# Altium integrated library Dallas Logic Delay Line.IntLib: 454 symbols (part 7 of 8)
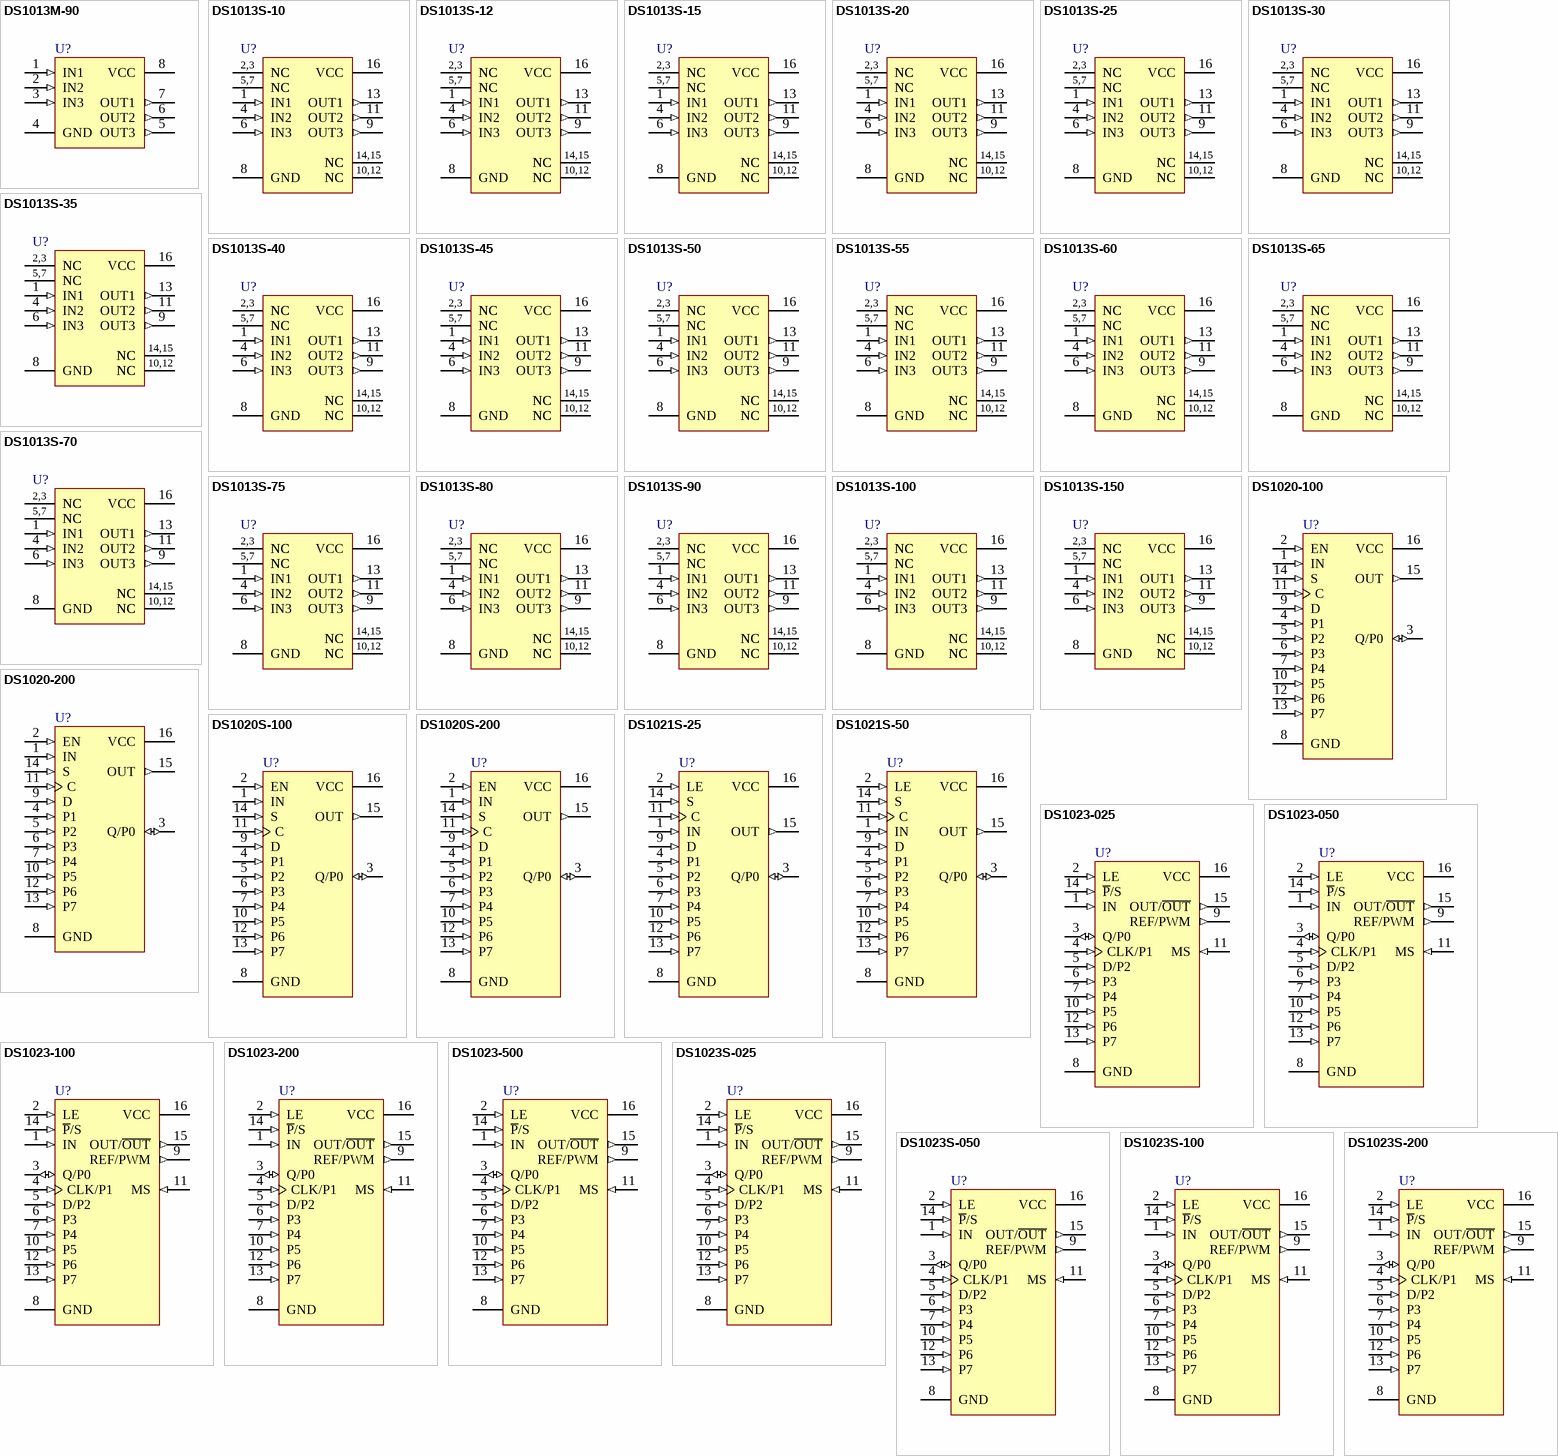
[diagram p17: symbols DS1013M-90 to DS1023S-200]

## DS1013S-10
designator U?
3-in-1 Silicon Delay Line; Note: Pin numbers 2, 3, 5, 7, 10, 12, 14 and 15 are Not Connected (NC); Published: 13-Oct-2000; LatestRevisionDate: 13-Apr-2006; LatestRevisionNote: IPC-7351 Footprint Added.; DatasheetVersion: 17-Feb-1998; PackageVersion: 1999; PackageReference: SOIC16W; Publisher: Altium Limited; PackageDescription: 16-Pin Small Outline Integrated Circuit 1.27 mm Pitch; ComponentLink1Description: Manufacturer Link; ComponentLink1URL: http://www.maxim-ic.com/; ComponentLink2Description: Datasheet; ComponentLink2URL: http://www.maxim-ic.com/getds.cfm?qv_pk=2605&ln=en
footprint SOIC16W_N (SOIC, 16-Leads, Body 10.3x7.5mm, Pitch 1.27mm, IPC Medium Density)
footprint SOIC16W_L (SOIC, 16-Leads, Body 10.3x7.5mm, Pitch 1.27mm, IPC High Density)
footprint SOIC16W_M (SOIC, 16-Leads, Body 10.3x7.5mm, Pitch 1.27mm, IPC Low Density)
pins: 1 IN1 (in), 2 NC, 3 NC, 4 IN2 (in), 5 NC, 6 IN3 (in), 7 NC, 8 GND (power), 9 OUT3 (out), 10 NC, 11 OUT2 (out), 12 NC, 13 OUT1 (out), 14 NC, 15 NC, 16 VCC (power)
text: 2,3; 5,7; 14,15; 10,12

## DS1013S-12
designator U?
3-in-1 Silicon Delay Line; Note: Pin numbers 2, 3, 5, 7, 10, 12, 14 and 15 are Not Connected (NC); Published: 13-Oct-2000; LatestRevisionDate: 13-Apr-2006; LatestRevisionNote: IPC-7351 Footprint Added.; DatasheetVersion: 17-Feb-1998; PackageVersion: 1999; PackageReference: SOIC16W; Publisher: Altium Limited; PackageDescription: 16-Pin Small Outline Integrated Circuit 1.27 mm Pitch; ComponentLink1Description: Manufacturer Link; ComponentLink1URL: http://www.maxim-ic.com/; ComponentLink2Description: Datasheet; ComponentLink2URL: http://www.maxim-ic.com/getds.cfm?qv_pk=2605&ln=en
footprint SOIC16W_N (SOIC, 16-Leads, Body 10.3x7.5mm, Pitch 1.27mm, IPC Medium Density)
footprint SOIC16W_L (SOIC, 16-Leads, Body 10.3x7.5mm, Pitch 1.27mm, IPC High Density)
footprint SOIC16W_M (SOIC, 16-Leads, Body 10.3x7.5mm, Pitch 1.27mm, IPC Low Density)
pins: 1 IN1 (in), 2 NC, 3 NC, 4 IN2 (in), 5 NC, 6 IN3 (in), 7 NC, 8 GND (power), 9 OUT3 (out), 10 NC, 11 OUT2 (out), 12 NC, 13 OUT1 (out), 14 NC, 15 NC, 16 VCC (power)
text: 2,3; 5,7; 14,15; 10,12

## DS1013S-15
designator U?
3-in-1 Silicon Delay Line; Note: Pin numbers 2, 3, 5, 7, 10, 12, 14 and 15 are Not Connected (NC); Published: 13-Oct-2000; LatestRevisionDate: 13-Apr-2006; LatestRevisionNote: IPC-7351 Footprint Added.; DatasheetVersion: 17-Feb-1998; PackageVersion: 1999; PackageReference: SOIC16W; Publisher: Altium Limited; PackageDescription: 16-Pin Small Outline Integrated Circuit 1.27 mm Pitch; ComponentLink1Description: Manufacturer Link; ComponentLink1URL: http://www.maxim-ic.com/; ComponentLink2Description: Datasheet; ComponentLink2URL: http://www.maxim-ic.com/getds.cfm?qv_pk=2605&ln=en
footprint SOIC16W_N (SOIC, 16-Leads, Body 10.3x7.5mm, Pitch 1.27mm, IPC Medium Density)
footprint SOIC16W_L (SOIC, 16-Leads, Body 10.3x7.5mm, Pitch 1.27mm, IPC High Density)
footprint SOIC16W_M (SOIC, 16-Leads, Body 10.3x7.5mm, Pitch 1.27mm, IPC Low Density)
pins: 1 IN1 (in), 2 NC, 3 NC, 4 IN2 (in), 5 NC, 6 IN3 (in), 7 NC, 8 GND (power), 9 OUT3 (out), 10 NC, 11 OUT2 (out), 12 NC, 13 OUT1 (out), 14 NC, 15 NC, 16 VCC (power)
text: 2,3; 5,7; 14,15; 10,12

## DS1013S-20
designator U?
3-in-1 Silicon Delay Line; Note: Pin numbers 2, 3, 5, 7, 10, 12, 14 and 15 are Not Connected (NC); Published: 13-Oct-2000; LatestRevisionDate: 13-Apr-2006; LatestRevisionNote: IPC-7351 Footprint Added.; DatasheetVersion: 17-Feb-1998; PackageVersion: 1999; PackageReference: SOIC16W; Publisher: Altium Limited; PackageDescription: 16-Pin Small Outline Integrated Circuit 1.27 mm Pitch; ComponentLink1Description: Manufacturer Link; ComponentLink1URL: http://www.maxim-ic.com/; ComponentLink2Description: Datasheet; ComponentLink2URL: http://www.maxim-ic.com/getds.cfm?qv_pk=2605&ln=en
footprint SOIC16W_N (SOIC, 16-Leads, Body 10.3x7.5mm, Pitch 1.27mm, IPC Medium Density)
footprint SOIC16W_L (SOIC, 16-Leads, Body 10.3x7.5mm, Pitch 1.27mm, IPC High Density)
footprint SOIC16W_M (SOIC, 16-Leads, Body 10.3x7.5mm, Pitch 1.27mm, IPC Low Density)
pins: 1 IN1 (in), 2 NC, 3 NC, 4 IN2 (in), 5 NC, 6 IN3 (in), 7 NC, 8 GND (power), 9 OUT3 (out), 10 NC, 11 OUT2 (out), 12 NC, 13 OUT1 (out), 14 NC, 15 NC, 16 VCC (power)
text: 2,3; 5,7; 14,15; 10,12

## DS1013S-25
designator U?
3-in-1 Silicon Delay Line; Note: Pin numbers 2, 3, 5, 7, 10, 12, 14 and 15 are Not Connected (NC); Published: 13-Oct-2000; LatestRevisionDate: 13-Apr-2006; LatestRevisionNote: IPC-7351 Footprint Added.; DatasheetVersion: 17-Feb-1998; PackageVersion: 1999; PackageReference: SOIC16W; Publisher: Altium Limited; PackageDescription: 16-Pin Small Outline Integrated Circuit 1.27 mm Pitch; ComponentLink1Description: Manufacturer Link; ComponentLink1URL: http://www.maxim-ic.com/; ComponentLink2Description: Datasheet; ComponentLink2URL: http://www.maxim-ic.com/getds.cfm?qv_pk=2605&ln=en
footprint SOIC16W_N (SOIC, 16-Leads, Body 10.3x7.5mm, Pitch 1.27mm, IPC Medium Density)
footprint SOIC16W_L (SOIC, 16-Leads, Body 10.3x7.5mm, Pitch 1.27mm, IPC High Density)
footprint SOIC16W_M (SOIC, 16-Leads, Body 10.3x7.5mm, Pitch 1.27mm, IPC Low Density)
pins: 1 IN1 (in), 2 NC, 3 NC, 4 IN2 (in), 5 NC, 6 IN3 (in), 7 NC, 8 GND (power), 9 OUT3 (out), 10 NC, 11 OUT2 (out), 12 NC, 13 OUT1 (out), 14 NC, 15 NC, 16 VCC (power)
text: 2,3; 5,7; 14,15; 10,12

## DS1013S-30
designator U?
3-in-1 Silicon Delay Line; Note: Pin numbers 2, 3, 5, 7, 10, 12, 14 and 15 are Not Connected (NC); Published: 13-Oct-2000; LatestRevisionDate: 13-Apr-2006; LatestRevisionNote: IPC-7351 Footprint Added.; DatasheetVersion: 17-Feb-1998; PackageVersion: 1999; PackageReference: SOIC16W; Publisher: Altium Limited; PackageDescription: 16-Pin Small Outline Integrated Circuit 1.27 mm Pitch; ComponentLink1Description: Manufacturer Link; ComponentLink1URL: http://www.maxim-ic.com/; ComponentLink2Description: Datasheet; ComponentLink2URL: http://www.maxim-ic.com/getds.cfm?qv_pk=2605&ln=en
footprint SOIC16W_N (SOIC, 16-Leads, Body 10.3x7.5mm, Pitch 1.27mm, IPC Medium Density)
footprint SOIC16W_L (SOIC, 16-Leads, Body 10.3x7.5mm, Pitch 1.27mm, IPC High Density)
footprint SOIC16W_M (SOIC, 16-Leads, Body 10.3x7.5mm, Pitch 1.27mm, IPC Low Density)
pins: 1 IN1 (in), 2 NC, 3 NC, 4 IN2 (in), 5 NC, 6 IN3 (in), 7 NC, 8 GND (power), 9 OUT3 (out), 10 NC, 11 OUT2 (out), 12 NC, 13 OUT1 (out), 14 NC, 15 NC, 16 VCC (power)
text: 2,3; 5,7; 14,15; 10,12

## DS1013S-35
designator U?
3-in-1 Silicon Delay Line; Note: Pin numbers 2, 3, 5, 7, 10, 12, 14 and 15 are Not Connected (NC); Published: 13-Oct-2000; LatestRevisionDate: 13-Apr-2006; LatestRevisionNote: IPC-7351 Footprint Added.; DatasheetVersion: 17-Feb-1998; PackageVersion: 1999; PackageReference: SOIC16W; Publisher: Altium Limited; PackageDescription: 16-Pin Small Outline Integrated Circuit 1.27 mm Pitch; ComponentLink1Description: Manufacturer Link; ComponentLink1URL: http://www.maxim-ic.com/; ComponentLink2Description: Datasheet; ComponentLink2URL: http://www.maxim-ic.com/getds.cfm?qv_pk=2605&ln=en
footprint SOIC16W_N (SOIC, 16-Leads, Body 10.3x7.5mm, Pitch 1.27mm, IPC Medium Density)
footprint SOIC16W_L (SOIC, 16-Leads, Body 10.3x7.5mm, Pitch 1.27mm, IPC High Density)
footprint SOIC16W_M (SOIC, 16-Leads, Body 10.3x7.5mm, Pitch 1.27mm, IPC Low Density)
pins: 1 IN1 (in), 2 NC, 3 NC, 4 IN2 (in), 5 NC, 6 IN3 (in), 7 NC, 8 GND (power), 9 OUT3 (out), 10 NC, 11 OUT2 (out), 12 NC, 13 OUT1 (out), 14 NC, 15 NC, 16 VCC (power)
text: 2,3; 5,7; 14,15; 10,12

## DS1013S-40
designator U?
3-in-1 Silicon Delay Line; Note: Pin numbers 2, 3, 5, 7, 10, 12, 14 and 15 are Not Connected (NC); Published: 13-Oct-2000; LatestRevisionDate: 13-Apr-2006; LatestRevisionNote: IPC-7351 Footprint Added.; DatasheetVersion: 17-Feb-1998; PackageVersion: 1999; PackageReference: SOIC16W; Publisher: Altium Limited; PackageDescription: 16-Pin Small Outline Integrated Circuit 1.27 mm Pitch; ComponentLink1Description: Manufacturer Link; ComponentLink1URL: http://www.maxim-ic.com/; ComponentLink2Description: Datasheet; ComponentLink2URL: http://www.maxim-ic.com/getds.cfm?qv_pk=2605&ln=en
footprint SOIC16W_N (SOIC, 16-Leads, Body 10.3x7.5mm, Pitch 1.27mm, IPC Medium Density)
footprint SOIC16W_L (SOIC, 16-Leads, Body 10.3x7.5mm, Pitch 1.27mm, IPC High Density)
footprint SOIC16W_M (SOIC, 16-Leads, Body 10.3x7.5mm, Pitch 1.27mm, IPC Low Density)
pins: 1 IN1 (in), 2 NC, 3 NC, 4 IN2 (in), 5 NC, 6 IN3 (in), 7 NC, 8 GND (power), 9 OUT3 (out), 10 NC, 11 OUT2 (out), 12 NC, 13 OUT1 (out), 14 NC, 15 NC, 16 VCC (power)
text: 2,3; 5,7; 14,15; 10,12

## DS1013S-45
designator U?
3-in-1 Silicon Delay Line; Note: Pin numbers 2, 3, 5, 7, 10, 12, 14 and 15 are Not Connected (NC); Published: 13-Oct-2000; LatestRevisionDate: 13-Apr-2006; LatestRevisionNote: IPC-7351 Footprint Added.; DatasheetVersion: 17-Feb-1998; PackageVersion: 1999; PackageReference: SOIC16W; Publisher: Altium Limited; PackageDescription: 16-Pin Small Outline Integrated Circuit 1.27 mm Pitch; ComponentLink1Description: Manufacturer Link; ComponentLink1URL: http://www.maxim-ic.com/; ComponentLink2Description: Datasheet; ComponentLink2URL: http://www.maxim-ic.com/getds.cfm?qv_pk=2605&ln=en
footprint SOIC16W_N (SOIC, 16-Leads, Body 10.3x7.5mm, Pitch 1.27mm, IPC Medium Density)
footprint SOIC16W_L (SOIC, 16-Leads, Body 10.3x7.5mm, Pitch 1.27mm, IPC High Density)
footprint SOIC16W_M (SOIC, 16-Leads, Body 10.3x7.5mm, Pitch 1.27mm, IPC Low Density)
pins: 1 IN1 (in), 2 NC, 3 NC, 4 IN2 (in), 5 NC, 6 IN3 (in), 7 NC, 8 GND (power), 9 OUT3 (out), 10 NC, 11 OUT2 (out), 12 NC, 13 OUT1 (out), 14 NC, 15 NC, 16 VCC (power)
text: 2,3; 5,7; 14,15; 10,12

## DS1013S-50
designator U?
3-in-1 Silicon Delay Line; Note: Pin numbers 2, 3, 5, 7, 10, 12, 14 and 15 are Not Connected (NC); Published: 13-Oct-2000; LatestRevisionDate: 13-Apr-2006; LatestRevisionNote: IPC-7351 Footprint Added.; DatasheetVersion: 17-Feb-1998; PackageVersion: 1999; PackageReference: SOIC16W; Publisher: Altium Limited; PackageDescription: 16-Pin Small Outline Integrated Circuit 1.27 mm Pitch; ComponentLink1Description: Manufacturer Link; ComponentLink1URL: http://www.maxim-ic.com/; ComponentLink2Description: Datasheet; ComponentLink2URL: http://www.maxim-ic.com/getds.cfm?qv_pk=2605&ln=en
footprint SOIC16W_N (SOIC, 16-Leads, Body 10.3x7.5mm, Pitch 1.27mm, IPC Medium Density)
footprint SOIC16W_L (SOIC, 16-Leads, Body 10.3x7.5mm, Pitch 1.27mm, IPC High Density)
footprint SOIC16W_M (SOIC, 16-Leads, Body 10.3x7.5mm, Pitch 1.27mm, IPC Low Density)
pins: 1 IN1 (in), 2 NC, 3 NC, 4 IN2 (in), 5 NC, 6 IN3 (in), 7 NC, 8 GND (power), 9 OUT3 (out), 10 NC, 11 OUT2 (out), 12 NC, 13 OUT1 (out), 14 NC, 15 NC, 16 VCC (power)
text: 2,3; 5,7; 14,15; 10,12

## DS1013S-55
designator U?
3-in-1 Silicon Delay Line; Note: Pin numbers 2, 3, 5, 7, 10, 12, 14 and 15 are Not Connected (NC); Published: 13-Oct-2000; LatestRevisionDate: 13-Apr-2006; LatestRevisionNote: IPC-7351 Footprint Added.; DatasheetVersion: Mar-1994; PackageVersion: 1999; PackageReference: SOIC16W; Publisher: Altium Limited; PackageDescription: 16-Pin Small Outline Integrated Circuit 1.27 mm Pitch; ComponentLink1Description: Manufacturer Link; ComponentLink1URL: http://www.maxim-ic.com/; ComponentLink2Description: Datasheet; ComponentLink2URL: http://www.maxim-ic.com/getds.cfm?qv_pk=2605&ln=en
footprint SOIC16W_N (SOIC, 16-Leads, Body 10.3x7.5mm, Pitch 1.27mm, IPC Medium Density)
footprint SOIC16W_L (SOIC, 16-Leads, Body 10.3x7.5mm, Pitch 1.27mm, IPC High Density)
footprint SOIC16W_M (SOIC, 16-Leads, Body 10.3x7.5mm, Pitch 1.27mm, IPC Low Density)
pins: 1 IN1 (in), 2 NC, 3 NC, 4 IN2 (in), 5 NC, 6 IN3 (in), 7 NC, 8 GND (power), 9 OUT3 (out), 10 NC, 11 OUT2 (out), 12 NC, 13 OUT1 (out), 14 NC, 15 NC, 16 VCC (power)
text: 2,3; 5,7; 14,15; 10,12

## DS1013S-60
designator U?
3-in-1 Silicon Delay Line; Note: Pin numbers 2, 3, 5, 7, 10, 12, 14 and 15 are Not Connected (NC); Published: 13-Oct-2000; LatestRevisionDate: 13-Apr-2006; LatestRevisionNote: IPC-7351 Footprint Added.; DatasheetVersion: 17-Feb-1998; PackageVersion: 1999; PackageReference: SOIC16W; Publisher: Altium Limited; PackageDescription: 16-Pin Small Outline Integrated Circuit 1.27 mm Pitch; ComponentLink1Description: Manufacturer Link; ComponentLink1URL: http://www.maxim-ic.com/; ComponentLink2Description: Datasheet; ComponentLink2URL: http://www.maxim-ic.com/getds.cfm?qv_pk=2605&ln=en
footprint SOIC16W_N (SOIC, 16-Leads, Body 10.3x7.5mm, Pitch 1.27mm, IPC Medium Density)
footprint SOIC16W_L (SOIC, 16-Leads, Body 10.3x7.5mm, Pitch 1.27mm, IPC High Density)
footprint SOIC16W_M (SOIC, 16-Leads, Body 10.3x7.5mm, Pitch 1.27mm, IPC Low Density)
pins: 1 IN1 (in), 2 NC, 3 NC, 4 IN2 (in), 5 NC, 6 IN3 (in), 7 NC, 8 GND (power), 9 OUT3 (out), 10 NC, 11 OUT2 (out), 12 NC, 13 OUT1 (out), 14 NC, 15 NC, 16 VCC (power)
text: 2,3; 5,7; 14,15; 10,12

## DS1013S-65
designator U?
3-in-1 Silicon Delay Line; Note: Pin numbers 2, 3, 5, 7, 10, 12, 14 and 15 are Not Connected (NC); Published: 13-Oct-2000; LatestRevisionDate: 13-Apr-2006; LatestRevisionNote: IPC-7351 Footprint Added.; DatasheetVersion: Mar-1994; PackageVersion: 1999; PackageReference: SOIC16W; Publisher: Altium Limited; PackageDescription: 16-Pin Small Outline Integrated Circuit 1.27 mm Pitch; ComponentLink1Description: Manufacturer Link; ComponentLink1URL: http://www.maxim-ic.com/; ComponentLink2Description: Datasheet; ComponentLink2URL: http://www.maxim-ic.com/getds.cfm?qv_pk=2605&ln=en
footprint SOIC16W_N (SOIC, 16-Leads, Body 10.3x7.5mm, Pitch 1.27mm, IPC Medium Density)
footprint SOIC16W_L (SOIC, 16-Leads, Body 10.3x7.5mm, Pitch 1.27mm, IPC High Density)
footprint SOIC16W_M (SOIC, 16-Leads, Body 10.3x7.5mm, Pitch 1.27mm, IPC Low Density)
pins: 1 IN1 (in), 2 NC, 3 NC, 4 IN2 (in), 5 NC, 6 IN3 (in), 7 NC, 8 GND (power), 9 OUT3 (out), 10 NC, 11 OUT2 (out), 12 NC, 13 OUT1 (out), 14 NC, 15 NC, 16 VCC (power)
text: 2,3; 5,7; 14,15; 10,12

## DS1013S-70
designator U?
3-in-1 Silicon Delay Line; Note: Pin numbers 2, 3, 5, 7, 10, 12, 14 and 15 are Not Connected (NC); Published: 13-Oct-2000; LatestRevisionDate: 13-Apr-2006; LatestRevisionNote: IPC-7351 Footprint Added.; DatasheetVersion: 17-Feb-1998; PackageVersion: 1999; PackageReference: SOIC16W; Publisher: Altium Limited; PackageDescription: 16-Pin Small Outline Integrated Circuit 1.27 mm Pitch; ComponentLink1Description: Manufacturer Link; ComponentLink1URL: http://www.maxim-ic.com/; ComponentLink2Description: Datasheet; ComponentLink2URL: http://www.maxim-ic.com/getds.cfm?qv_pk=2605&ln=en
footprint SOIC16W_N (SOIC, 16-Leads, Body 10.3x7.5mm, Pitch 1.27mm, IPC Medium Density)
footprint SOIC16W_L (SOIC, 16-Leads, Body 10.3x7.5mm, Pitch 1.27mm, IPC High Density)
footprint SOIC16W_M (SOIC, 16-Leads, Body 10.3x7.5mm, Pitch 1.27mm, IPC Low Density)
pins: 1 IN1 (in), 2 NC, 3 NC, 4 IN2 (in), 5 NC, 6 IN3 (in), 7 NC, 8 GND (power), 9 OUT3 (out), 10 NC, 11 OUT2 (out), 12 NC, 13 OUT1 (out), 14 NC, 15 NC, 16 VCC (power)
text: 2,3; 5,7; 14,15; 10,12

## DS1013S-75
designator U?
3-in-1 Silicon Delay Line; Note: Pin numbers 2, 3, 5, 7, 10, 12, 14 and 15 are Not Connected (NC); Published: 13-Oct-2000; LatestRevisionDate: 13-Apr-2006; LatestRevisionNote: IPC-7351 Footprint Added.; DatasheetVersion: 17-Feb-1998; PackageVersion: 1999; PackageReference: SOIC16W; Publisher: Altium Limited; PackageDescription: 16-Pin Small Outline Integrated Circuit 1.27 mm Pitch; ComponentLink1Description: Manufacturer Link; ComponentLink1URL: http://www.maxim-ic.com/; ComponentLink2Description: Datasheet; ComponentLink2URL: http://www.maxim-ic.com/getds.cfm?qv_pk=2605&ln=en
footprint SOIC16W_N (SOIC, 16-Leads, Body 10.3x7.5mm, Pitch 1.27mm, IPC Medium Density)
footprint SOIC16W_L (SOIC, 16-Leads, Body 10.3x7.5mm, Pitch 1.27mm, IPC High Density)
footprint SOIC16W_M (SOIC, 16-Leads, Body 10.3x7.5mm, Pitch 1.27mm, IPC Low Density)
pins: 1 IN1 (in), 2 NC, 3 NC, 4 IN2 (in), 5 NC, 6 IN3 (in), 7 NC, 8 GND (power), 9 OUT3 (out), 10 NC, 11 OUT2 (out), 12 NC, 13 OUT1 (out), 14 NC, 15 NC, 16 VCC (power)
text: 2,3; 5,7; 14,15; 10,12

## DS1013S-80
designator U?
3-in-1 Silicon Delay Line; Note: Pin numbers 2, 3, 5, 7, 10, 12, 14 and 15 are Not Connected (NC); Published: 13-Oct-2000; LatestRevisionDate: 13-Apr-2006; LatestRevisionNote: IPC-7351 Footprint Added.; DatasheetVersion: 17-Feb-1998; PackageVersion: 1999; PackageReference: SOIC16W; Publisher: Altium Limited; PackageDescription: 16-Pin Small Outline Integrated Circuit 1.27 mm Pitch; ComponentLink1Description: Manufacturer Link; ComponentLink1URL: http://www.maxim-ic.com/; ComponentLink2Description: Datasheet; ComponentLink2URL: http://www.maxim-ic.com/getds.cfm?qv_pk=2605&ln=en
footprint SOIC16W_N (SOIC, 16-Leads, Body 10.3x7.5mm, Pitch 1.27mm, IPC Medium Density)
footprint SOIC16W_L (SOIC, 16-Leads, Body 10.3x7.5mm, Pitch 1.27mm, IPC High Density)
footprint SOIC16W_M (SOIC, 16-Leads, Body 10.3x7.5mm, Pitch 1.27mm, IPC Low Density)
pins: 1 IN1 (in), 2 NC, 3 NC, 4 IN2 (in), 5 NC, 6 IN3 (in), 7 NC, 8 GND (power), 9 OUT3 (out), 10 NC, 11 OUT2 (out), 12 NC, 13 OUT1 (out), 14 NC, 15 NC, 16 VCC (power)
text: 2,3; 5,7; 14,15; 10,12

## DS1013S-90
designator U?
3-in-1 Silicon Delay Line; Note: Pin numbers 2, 3, 5, 7, 10, 12, 14 and 15 are Not Connected (NC); Published: 13-Oct-2000; LatestRevisionDate: 13-Apr-2006; LatestRevisionNote: IPC-7351 Footprint Added.; DatasheetVersion: Mar-1994; PackageVersion: 1999; PackageReference: SOIC16W; Publisher: Altium Limited; PackageDescription: 16-Pin Small Outline Integrated Circuit 1.27 mm Pitch; ComponentLink1Description: Manufacturer Link; ComponentLink1URL: http://www.maxim-ic.com/; ComponentLink2Description: Datasheet; ComponentLink2URL: http://www.maxim-ic.com/getds.cfm?qv_pk=2605&ln=en
footprint SOIC16W_N (SOIC, 16-Leads, Body 10.3x7.5mm, Pitch 1.27mm, IPC Medium Density)
footprint SOIC16W_L (SOIC, 16-Leads, Body 10.3x7.5mm, Pitch 1.27mm, IPC High Density)
footprint SOIC16W_M (SOIC, 16-Leads, Body 10.3x7.5mm, Pitch 1.27mm, IPC Low Density)
pins: 1 IN1 (in), 2 NC, 3 NC, 4 IN2 (in), 5 NC, 6 IN3 (in), 7 NC, 8 GND (power), 9 OUT3 (out), 10 NC, 11 OUT2 (out), 12 NC, 13 OUT1 (out), 14 NC, 15 NC, 16 VCC (power)
text: 2,3; 5,7; 14,15; 10,12

## DS1013S-100
designator U?
3-in-1 Silicon Delay Line; Note: Pin numbers 2, 3, 5, 7, 10, 12, 14 and 15 are Not Connected (NC); Published: 13-Oct-2000; LatestRevisionDate: 13-Apr-2006; LatestRevisionNote: IPC-7351 Footprint Added.; DatasheetVersion: 17-Feb-1998; PackageVersion: 1999; PackageReference: SOIC16W; Publisher: Altium Limited; PackageDescription: 16-Pin Small Outline Integrated Circuit 1.27 mm Pitch; ComponentLink1Description: Manufacturer Link; ComponentLink1URL: http://www.maxim-ic.com/; ComponentLink2Description: Datasheet; ComponentLink2URL: http://www.maxim-ic.com/getds.cfm?qv_pk=2605&ln=en
footprint SOIC16W_N (SOIC, 16-Leads, Body 10.3x7.5mm, Pitch 1.27mm, IPC Medium Density)
footprint SOIC16W_L (SOIC, 16-Leads, Body 10.3x7.5mm, Pitch 1.27mm, IPC High Density)
footprint SOIC16W_M (SOIC, 16-Leads, Body 10.3x7.5mm, Pitch 1.27mm, IPC Low Density)
pins: 1 IN1 (in), 2 NC, 3 NC, 4 IN2 (in), 5 NC, 6 IN3 (in), 7 NC, 8 GND (power), 9 OUT3 (out), 10 NC, 11 OUT2 (out), 12 NC, 13 OUT1 (out), 14 NC, 15 NC, 16 VCC (power)
text: 2,3; 5,7; 14,15; 10,12

## DS1013S-150
designator U?
3-in-1 Silicon Delay Line; Note: Pin numbers 2, 3, 5, 7, 10, 12, 14 and 15 are Not Connected (NC); Published: 13-Oct-2000; LatestRevisionDate: 13-Apr-2006; LatestRevisionNote: IPC-7351 Footprint Added.; DatasheetVersion: 17-Feb-1998; PackageVersion: 1999; PackageReference: SOIC16W; Publisher: Altium Limited; PackageDescription: 16-Pin Small Outline Integrated Circuit 1.27 mm Pitch; ComponentLink1Description: Manufacturer Link; ComponentLink1URL: http://www.maxim-ic.com/; ComponentLink2Description: Datasheet; ComponentLink2URL: http://www.maxim-ic.com/getds.cfm?qv_pk=2605&ln=en
footprint SOIC16W_N (SOIC, 16-Leads, Body 10.3x7.5mm, Pitch 1.27mm, IPC Medium Density)
footprint SOIC16W_L (SOIC, 16-Leads, Body 10.3x7.5mm, Pitch 1.27mm, IPC High Density)
footprint SOIC16W_M (SOIC, 16-Leads, Body 10.3x7.5mm, Pitch 1.27mm, IPC Low Density)
pins: 1 IN1 (in), 2 NC, 3 NC, 4 IN2 (in), 5 NC, 6 IN3 (in), 7 NC, 8 GND (power), 9 OUT3 (out), 10 NC, 11 OUT2 (out), 12 NC, 13 OUT1 (out), 14 NC, 15 NC, 16 VCC (power)
text: 2,3; 5,7; 14,15; 10,12

## DS1020-100
designator U?
Programmable 8-Bit Silicon Delay Line; Published: 13-Oct-2000; LatestRevisionDate: 17-Jul-2002; LatestRevisionNote: Re-released for DXP Platform.; DatasheetVersion: 17-Feb-1998; PackageVersion: 1999; PackageReference: DIP16; Publisher: Altium Limited; PackageDescription: DIP, 16-Pin, Row Spacing 7.62 mm, Pitch 2.54 mm; ComponentLink1Description: Manufacturer Link; ComponentLink1URL: http://www.maxim-ic.com/; ComponentLink2Description: Datasheet; ComponentLink2URL: http://www.maxim-ic.com/getds.cfm?qv_pk=2606&ln=en
footprint DIP16 (DIP, 16-Leads, Row Spacing 7.62mm, Pitch 2.54mm, Body 19.31x6.35mm)
pins: 1 IN (in), 2 EN (in), 3 Q/P0 (io), 4 P1 (in), 5 P2 (in), 6 P3 (in), 7 P4 (in), 8 GND (power), 9 D (in), 10 P5 (in), 11 C (in), 12 P6 (in), 13 P7 (in), 14 S (in), 15 OUT (out), 16 VCC (power)

## DS1020-200
designator U?
Programmable 8-Bit Silicon Delay Line; Published: 13-Oct-2000; LatestRevisionDate: 17-Jul-2002; LatestRevisionNote: Re-released for DXP Platform.; DatasheetVersion: 17-Feb-1998; PackageVersion: 1999; PackageReference: DIP16; Publisher: Altium Limited; PackageDescription: DIP, 16-Pin, Row Spacing 7.62 mm, Pitch 2.54 mm; ComponentLink1Description: Manufacturer Link; ComponentLink1URL: http://www.maxim-ic.com/; ComponentLink2Description: Datasheet; ComponentLink2URL: http://www.maxim-ic.com/getds.cfm?qv_pk=2606&ln=en
footprint DIP16 (DIP, 16-Leads, Row Spacing 7.62mm, Pitch 2.54mm, Body 19.31x6.35mm)
pins: 1 IN (in), 2 EN (in), 3 Q/P0 (io), 4 P1 (in), 5 P2 (in), 6 P3 (in), 7 P4 (in), 8 GND (power), 9 D (in), 10 P5 (in), 11 C (in), 12 P6 (in), 13 P7 (in), 14 S (in), 15 OUT (out), 16 VCC (power)

## DS1020S-100
designator U?
Programmable 8-Bit Silicon Delay Line; Published: 13-Oct-2000; LatestRevisionDate: 13-Apr-2006; LatestRevisionNote: IPC-7351 Footprint Added.; DatasheetVersion: 17-Feb-1998; PackageVersion: 1999; PackageReference: SOIC16W; Publisher: Altium Limited; PackageDescription: 16-Pin Small Outline Integrated Circuit 1.27 mm Pitch; ComponentLink1Description: Manufacturer Link; ComponentLink1URL: http://www.maxim-ic.com/; ComponentLink2Description: Datasheet; ComponentLink2URL: http://www.maxim-ic.com/getds.cfm?qv_pk=2606&ln=en
footprint SOIC16W_N (SOIC, 16-Leads, Body 10.3x7.5mm, Pitch 1.27mm, IPC Medium Density)
footprint SOIC16W_L (SOIC, 16-Leads, Body 10.3x7.5mm, Pitch 1.27mm, IPC High Density)
footprint SOIC16W_M (SOIC, 16-Leads, Body 10.3x7.5mm, Pitch 1.27mm, IPC Low Density)
pins: 1 IN (in), 2 EN (in), 3 Q/P0 (io), 4 P1 (in), 5 P2 (in), 6 P3 (in), 7 P4 (in), 8 GND (power), 9 D (in), 10 P5 (in), 11 C (in), 12 P6 (in), 13 P7 (in), 14 S (in), 15 OUT (out), 16 VCC (power)

## DS1020S-200
designator U?
Programmable 8-Bit Silicon Delay Line; Published: 13-Oct-2000; LatestRevisionDate: 13-Apr-2006; LatestRevisionNote: IPC-7351 Footprint Added.; DatasheetVersion: 17-Feb-1998; PackageVersion: 1999; PackageReference: SOIC16W; Publisher: Altium Limited; PackageDescription: 16-Pin Small Outline Integrated Circuit 1.27 mm Pitch; ComponentLink1Description: Manufacturer Link; ComponentLink1URL: http://www.maxim-ic.com/; ComponentLink2Description: Datasheet; ComponentLink2URL: http://www.maxim-ic.com/getds.cfm?qv_pk=2606&ln=en
footprint SOIC16W_N (SOIC, 16-Leads, Body 10.3x7.5mm, Pitch 1.27mm, IPC Medium Density)
footprint SOIC16W_L (SOIC, 16-Leads, Body 10.3x7.5mm, Pitch 1.27mm, IPC High Density)
footprint SOIC16W_M (SOIC, 16-Leads, Body 10.3x7.5mm, Pitch 1.27mm, IPC Low Density)
pins: 1 IN (in), 2 EN (in), 3 Q/P0 (io), 4 P1 (in), 5 P2 (in), 6 P3 (in), 7 P4 (in), 8 GND (power), 9 D (in), 10 P5 (in), 11 C (in), 12 P6 (in), 13 P7 (in), 14 S (in), 15 OUT (out), 16 VCC (power)

## DS1021S-25
designator U?
Programmable 8-Bit Silicon Delay Line; Published: 13-Oct-2000; LatestRevisionDate: 13-Apr-2006; LatestRevisionNote: IPC-7351 Footprint Added.; DatasheetVersion: 17-Feb-1998; PackageVersion: 1999; PackageReference: SOIC16W; Publisher: Altium Limited; PackageDescription: 16-Pin Small Outline Integrated Circuit 1.27 mm Pitch; ComponentLink1Description: Manufacturer Link; ComponentLink1URL: http://www.maxim-ic.com/; ComponentLink2Description: Datasheet; ComponentLink2URL: http://www.maxim-ic.com/getds.cfm?qv_pk=2607&ln=en
footprint SOIC16W_N (SOIC, 16-Leads, Body 10.3x7.5mm, Pitch 1.27mm, IPC Medium Density)
footprint SOIC16W_L (SOIC, 16-Leads, Body 10.3x7.5mm, Pitch 1.27mm, IPC High Density)
footprint SOIC16W_M (SOIC, 16-Leads, Body 10.3x7.5mm, Pitch 1.27mm, IPC Low Density)
pins: 1 IN (in), 2 LE (in), 3 Q/P0 (io), 4 P1 (in), 5 P2 (in), 6 P3 (in), 7 P4 (in), 8 GND (power), 9 D (in), 10 P5 (in), 11 C (in), 12 P6 (in), 13 P7 (in), 14 S (in), 15 OUT (out), 16 VCC (power)

## DS1021S-50
designator U?
Programmable 8-Bit Silicon Delay Line; Published: 13-Oct-2000; LatestRevisionDate: 13-Apr-2006; LatestRevisionNote: IPC-7351 Footprint Added.; DatasheetVersion: 17-Feb-1998; PackageVersion: 1999; PackageReference: SOIC16W; Publisher: Altium Limited; PackageDescription: 16-Pin Small Outline Integrated Circuit 1.27 mm Pitch; ComponentLink1Description: Manufacturer Link; ComponentLink1URL: http://www.maxim-ic.com/; ComponentLink2Description: Datasheet; ComponentLink2URL: http://www.maxim-ic.com/getds.cfm?qv_pk=2607&ln=en
footprint SOIC16W_N (SOIC, 16-Leads, Body 10.3x7.5mm, Pitch 1.27mm, IPC Medium Density)
footprint SOIC16W_L (SOIC, 16-Leads, Body 10.3x7.5mm, Pitch 1.27mm, IPC High Density)
footprint SOIC16W_M (SOIC, 16-Leads, Body 10.3x7.5mm, Pitch 1.27mm, IPC Low Density)
pins: 1 IN (in), 2 LE (in), 3 Q/P0 (io), 4 P1 (in), 5 P2 (in), 6 P3 (in), 7 P4 (in), 8 GND (power), 9 D (in), 10 P5 (in), 11 C (in), 12 P6 (in), 13 P7 (in), 14 S (in), 15 OUT (out), 16 VCC (power)

## DS1023-025
designator U?
8-Bit Programmable Timing Element; Published: 13-Oct-2000; LatestRevisionDate: 17-Jul-2002; LatestRevisionNote: Re-released for DXP Platform.; DatasheetVersion: 24-Jun-1998; PackageVersion: 1999; PackageReference: DIP16; Publisher: Altium Limited; PackageDescription: DIP, 16-Pin, Row Spacing 7.62 mm, Pitch 2.54 mm; ComponentLink1Description: Manufacturer Link; ComponentLink1URL: http://www.maxim-ic.com/; ComponentLink2Description: Datasheet; ComponentLink2URL: http://www.maxim-ic.com/getds.cfm?qv_pk=2608&ln=en
footprint DIP16 (DIP, 16-Leads, Row Spacing 7.62mm, Pitch 2.54mm, Body 19.31x6.35mm)
pins: 1 IN (in), 2 LE (in), 3 Q/P0 (io), 4 CLK/P1 (in), 5 D/P2 (in), 6 P3 (in), 7 P4 (in), 8 GND (power), 9 REF/PWM (out), 10 P5 (in), 11 MS (in), 12 P6 (in), 13 P7 (in), 14 ~{P}/S (in), 15 OUT/~{OUT} (out), 16 VCC (power)

## DS1023-050
designator U?
8-Bit Programmable Timing Element; Published: 13-Oct-2000; LatestRevisionDate: 17-Jul-2002; LatestRevisionNote: Re-released for DXP Platform.; DatasheetVersion: 24-Jun-1998; PackageVersion: 1999; PackageReference: DIP16; Publisher: Altium Limited; PackageDescription: DIP, 16-Pin, Row Spacing 7.62 mm, Pitch 2.54 mm; ComponentLink1Description: Manufacturer Link; ComponentLink1URL: http://www.maxim-ic.com/; ComponentLink2Description: Datasheet; ComponentLink2URL: http://www.maxim-ic.com/getds.cfm?qv_pk=2608&ln=en
footprint DIP16 (DIP, 16-Leads, Row Spacing 7.62mm, Pitch 2.54mm, Body 19.31x6.35mm)
pins: 1 IN (in), 2 LE (in), 3 Q/P0 (io), 4 CLK/P1 (in), 5 D/P2 (in), 6 P3 (in), 7 P4 (in), 8 GND (power), 9 REF/PWM (out), 10 P5 (in), 11 MS (in), 12 P6 (in), 13 P7 (in), 14 ~{P}/S (in), 15 OUT/~{OUT} (out), 16 VCC (power)

## DS1023-100
designator U?
8-Bit Programmable Timing Element; Published: 13-Oct-2000; LatestRevisionDate: 17-Jul-2002; LatestRevisionNote: Re-released for DXP Platform.; DatasheetVersion: 24-Jun-1998; PackageVersion: 1999; PackageReference: DIP16; Publisher: Altium Limited; PackageDescription: DIP, 16-Pin, Row Spacing 7.62 mm, Pitch 2.54 mm; ComponentLink1Description: Manufacturer Link; ComponentLink1URL: http://www.maxim-ic.com/; ComponentLink2Description: Datasheet; ComponentLink2URL: http://www.maxim-ic.com/getds.cfm?qv_pk=2608&ln=en
footprint DIP16 (DIP, 16-Leads, Row Spacing 7.62mm, Pitch 2.54mm, Body 19.31x6.35mm)
pins: 1 IN (in), 2 LE (in), 3 Q/P0 (io), 4 CLK/P1 (in), 5 D/P2 (in), 6 P3 (in), 7 P4 (in), 8 GND (power), 9 REF/PWM (out), 10 P5 (in), 11 MS (in), 12 P6 (in), 13 P7 (in), 14 ~{P}/S (in), 15 OUT/~{OUT} (out), 16 VCC (power)

## DS1023-200
designator U?
8-Bit Programmable Timing Element; Published: 13-Oct-2000; LatestRevisionDate: 17-Jul-2002; LatestRevisionNote: Re-released for DXP Platform.; DatasheetVersion: 24-Jun-1998; PackageVersion: 1999; PackageReference: DIP16; Publisher: Altium Limited; PackageDescription: DIP, 16-Pin, Row Spacing 7.62 mm, Pitch 2.54 mm; ComponentLink1Description: Manufacturer Link; ComponentLink1URL: http://www.maxim-ic.com/; ComponentLink2Description: Datasheet; ComponentLink2URL: http://www.maxim-ic.com/getds.cfm?qv_pk=2608&ln=en
footprint DIP16 (DIP, 16-Leads, Row Spacing 7.62mm, Pitch 2.54mm, Body 19.31x6.35mm)
pins: 1 IN (in), 2 LE (in), 3 Q/P0 (io), 4 CLK/P1 (in), 5 D/P2 (in), 6 P3 (in), 7 P4 (in), 8 GND (power), 9 REF/PWM (out), 10 P5 (in), 11 MS (in), 12 P6 (in), 13 P7 (in), 14 ~{P}/S (in), 15 OUT/~{OUT} (out), 16 VCC (power)

## DS1023-500
designator U?
8-Bit Programmable Timing Element; Published: 13-Oct-2000; LatestRevisionDate: 17-Jul-2002; LatestRevisionNote: Re-released for DXP Platform.; DatasheetVersion: 24-Jun-1998; PackageVersion: 1999; PackageReference: DIP16; Publisher: Altium Limited; PackageDescription: DIP, 16-Pin, Row Spacing 7.62 mm, Pitch 2.54 mm; ComponentLink1Description: Manufacturer Link; ComponentLink1URL: http://www.maxim-ic.com/; ComponentLink2Description: Datasheet; ComponentLink2URL: http://www.maxim-ic.com/getds.cfm?qv_pk=2608&ln=en
footprint DIP16 (DIP, 16-Leads, Row Spacing 7.62mm, Pitch 2.54mm, Body 19.31x6.35mm)
pins: 1 IN (in), 2 LE (in), 3 Q/P0 (io), 4 CLK/P1 (in), 5 D/P2 (in), 6 P3 (in), 7 P4 (in), 8 GND (power), 9 REF/PWM (out), 10 P5 (in), 11 MS (in), 12 P6 (in), 13 P7 (in), 14 ~{P}/S (in), 15 OUT/~{OUT} (out), 16 VCC (power)

## DS1023S-025
designator U?
8-Bit Programmable Timing Element; Published: 13-Oct-2000; LatestRevisionDate: 13-Apr-2006; LatestRevisionNote: IPC-7351 Footprint Added.; DatasheetVersion: 24-Jun-1998; PackageVersion: 1999; PackageReference: SOIC16W; Publisher: Altium Limited; PackageDescription: 16-Pin Small Outline Integrated Circuit 1.27 mm Pitch; ComponentLink1Description: Manufacturer Link; ComponentLink1URL: http://www.maxim-ic.com/; ComponentLink2Description: Datasheet; ComponentLink2URL: http://www.maxim-ic.com/getds.cfm?qv_pk=2608&ln=en
footprint SOIC16W_N (SOIC, 16-Leads, Body 10.3x7.5mm, Pitch 1.27mm, IPC Medium Density)
footprint SOIC16W_L (SOIC, 16-Leads, Body 10.3x7.5mm, Pitch 1.27mm, IPC High Density)
footprint SOIC16W_M (SOIC, 16-Leads, Body 10.3x7.5mm, Pitch 1.27mm, IPC Low Density)
pins: 1 IN (in), 2 LE (in), 3 Q/P0 (io), 4 CLK/P1 (in), 5 D/P2 (in), 6 P3 (in), 7 P4 (in), 8 GND (power), 9 REF/PWM (out), 10 P5 (in), 11 MS (in), 12 P6 (in), 13 P7 (in), 14 ~{P}/S (in), 15 OUT/~{OUT} (out), 16 VCC (power)

## DS1023S-050
designator U?
8-Bit Programmable Timing Element; Published: 13-Oct-2000; LatestRevisionDate: 13-Apr-2006; LatestRevisionNote: IPC-7351 Footprint Added.; DatasheetVersion: 24-Jun-1998; PackageVersion: 1999; PackageReference: SOIC16W; Publisher: Altium Limited; PackageDescription: 16-Pin Small Outline Integrated Circuit 1.27 mm Pitch; ComponentLink1Description: Manufacturer Link; ComponentLink1URL: http://www.maxim-ic.com/; ComponentLink2Description: Datasheet; ComponentLink2URL: http://www.maxim-ic.com/getds.cfm?qv_pk=2608&ln=en
footprint SOIC16W_N (SOIC, 16-Leads, Body 10.3x7.5mm, Pitch 1.27mm, IPC Medium Density)
footprint SOIC16W_L (SOIC, 16-Leads, Body 10.3x7.5mm, Pitch 1.27mm, IPC High Density)
footprint SOIC16W_M (SOIC, 16-Leads, Body 10.3x7.5mm, Pitch 1.27mm, IPC Low Density)
pins: 1 IN (in), 2 LE (in), 3 Q/P0 (io), 4 CLK/P1 (in), 5 D/P2 (in), 6 P3 (in), 7 P4 (in), 8 GND (power), 9 REF/PWM (out), 10 P5 (in), 11 MS (in), 12 P6 (in), 13 P7 (in), 14 ~{P}/S (in), 15 OUT/~{OUT} (out), 16 VCC (power)

## DS1023S-100
designator U?
8-Bit Programmable Timing Element; Published: 13-Oct-2000; LatestRevisionDate: 13-Apr-2006; LatestRevisionNote: IPC-7351 Footprint Added.; DatasheetVersion: 24-Jun-1998; PackageVersion: 1999; PackageReference: SOIC16W; Publisher: Altium Limited; PackageDescription: 16-Pin Small Outline Integrated Circuit 1.27 mm Pitch; ComponentLink1Description: Manufacturer Link; ComponentLink1URL: http://www.maxim-ic.com/; ComponentLink2Description: Datasheet; ComponentLink2URL: http://www.maxim-ic.com/getds.cfm?qv_pk=2608&ln=en
footprint SOIC16W_N (SOIC, 16-Leads, Body 10.3x7.5mm, Pitch 1.27mm, IPC Medium Density)
footprint SOIC16W_L (SOIC, 16-Leads, Body 10.3x7.5mm, Pitch 1.27mm, IPC High Density)
footprint SOIC16W_M (SOIC, 16-Leads, Body 10.3x7.5mm, Pitch 1.27mm, IPC Low Density)
pins: 1 IN (in), 2 LE (in), 3 Q/P0 (io), 4 CLK/P1 (in), 5 D/P2 (in), 6 P3 (in), 7 P4 (in), 8 GND (power), 9 REF/PWM (out), 10 P5 (in), 11 MS (in), 12 P6 (in), 13 P7 (in), 14 ~{P}/S (in), 15 OUT/~{OUT} (out), 16 VCC (power)

## DS1023S-200
designator U?
8-Bit Programmable Timing Element; Published: 13-Oct-2000; LatestRevisionDate: 13-Apr-2006; LatestRevisionNote: IPC-7351 Footprint Added.; DatasheetVersion: 24-Jun-1998; PackageVersion: 1999; PackageReference: SOIC16W; Publisher: Altium Limited; PackageDescription: 16-Pin Small Outline Integrated Circuit 1.27 mm Pitch; ComponentLink1Description: Manufacturer Link; ComponentLink1URL: http://www.maxim-ic.com/; ComponentLink2Description: Datasheet; ComponentLink2URL: http://www.maxim-ic.com/getds.cfm?qv_pk=2608&ln=en
footprint SOIC16W_N (SOIC, 16-Leads, Body 10.3x7.5mm, Pitch 1.27mm, IPC Medium Density)
footprint SOIC16W_L (SOIC, 16-Leads, Body 10.3x7.5mm, Pitch 1.27mm, IPC High Density)
footprint SOIC16W_M (SOIC, 16-Leads, Body 10.3x7.5mm, Pitch 1.27mm, IPC Low Density)
pins: 1 IN (in), 2 LE (in), 3 Q/P0 (io), 4 CLK/P1 (in), 5 D/P2 (in), 6 P3 (in), 7 P4 (in), 8 GND (power), 9 REF/PWM (out), 10 P5 (in), 11 MS (in), 12 P6 (in), 13 P7 (in), 14 ~{P}/S (in), 15 OUT/~{OUT} (out), 16 VCC (power)

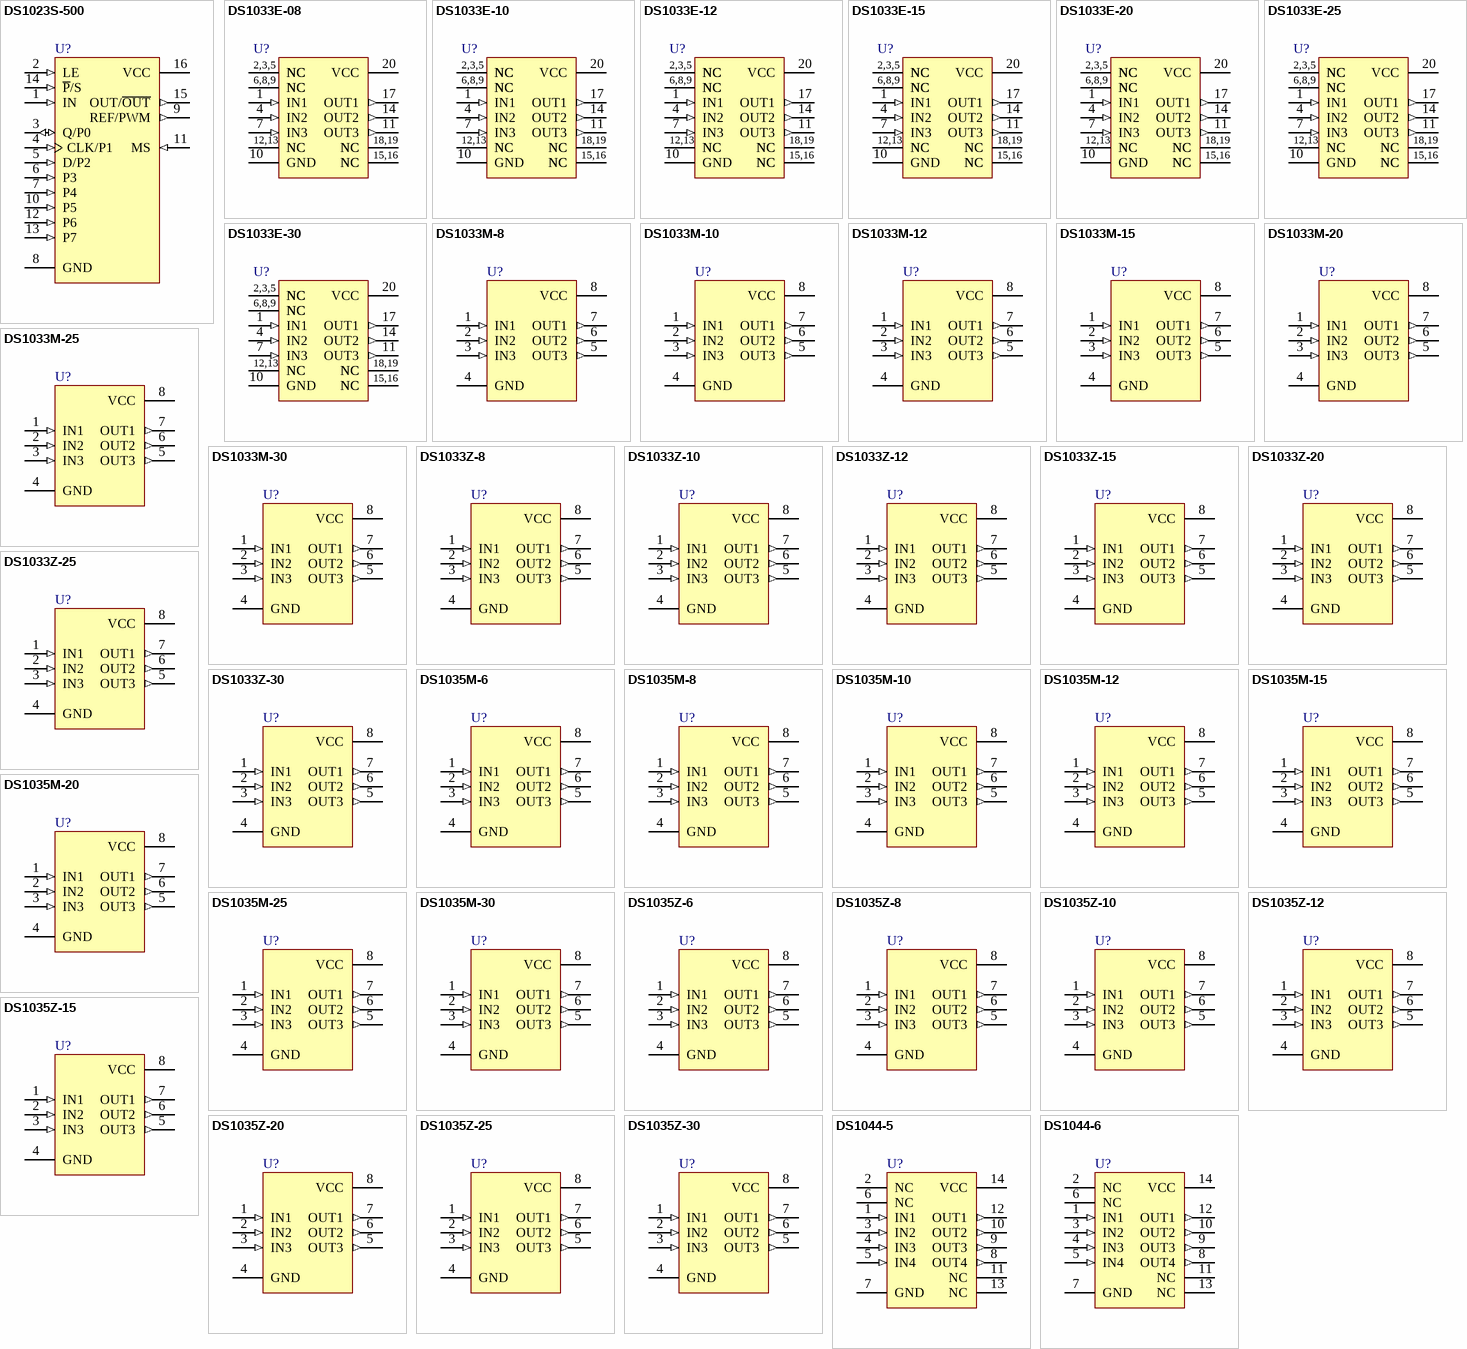
[diagram p10: symbols DS1023S-500 to DS1044-6]

## DS1023S-500
designator U?
8-Bit Programmable Timing Element; Published: 13-Oct-2000; LatestRevisionDate: 13-Apr-2006; LatestRevisionNote: IPC-7351 Footprint Added.; DatasheetVersion: 24-Jun-1998; PackageVersion: 1999; PackageReference: SOIC16W; Publisher: Altium Limited; PackageDescription: 16-Pin Small Outline Integrated Circuit 1.27 mm Pitch; ComponentLink1Description: Manufacturer Link; ComponentLink1URL: http://www.maxim-ic.com/; ComponentLink2Description: Datasheet; ComponentLink2URL: http://www.maxim-ic.com/getds.cfm?qv_pk=2608&ln=en
footprint SOIC16W_N (SOIC, 16-Leads, Body 10.3x7.5mm, Pitch 1.27mm, IPC Medium Density)
footprint SOIC16W_L (SOIC, 16-Leads, Body 10.3x7.5mm, Pitch 1.27mm, IPC High Density)
footprint SOIC16W_M (SOIC, 16-Leads, Body 10.3x7.5mm, Pitch 1.27mm, IPC Low Density)
pins: 1 IN (in), 2 LE (in), 3 Q/P0 (io), 4 CLK/P1 (in), 5 D/P2 (in), 6 P3 (in), 7 P4 (in), 8 GND (power), 9 REF/PWM (out), 10 P5 (in), 11 MS (in), 12 P6 (in), 13 P7 (in), 14 ~{P}/S (in), 15 OUT/~{OUT} (out), 16 VCC (power)

## DS1033E-08
designator U?
3-in-1 Low-Voltage Silicon Delay Line; Published: 13-Oct-2000; LatestRevisionDate: 20-Nov-2009; LatestRevisionNote: IPC-7351 Footprint Added.; DatasheetVersion: 6-Apr-1994; PackageReference: TSSOP20; Publisher: Altium Limited; PackageDescription: 20-Pin Thin Small Outline Package 0.65 mm Pitch; ComponentLink1Description: Manufacturer Link; ComponentLink1URL: http://www.maxim-ic.com/; ComponentLink2Description: Datasheet; ComponentLink2URL: http://www.maxim-ic.com/getds.cfm?qv_pk=2609&ln=en
footprint TSSOP20_N (TSOP, 20-Leads, Body 6.5x4.4mm, Pitch 0.65mm, IPC Medium Density)
footprint TSSOP20_L (TSOP, 20-Leads, Body 6.5x4.4mm, Pitch 0.65mm, IPC High Density)
footprint TSSOP20_M (TSOP, 20-Leads, Body 6.5x4.4mm, Pitch 0.65mm, IPC Low Density)
pins: 1 IN1 (in), 2 NC, 3 NC, 4 IN2 (in), 5 NC, 6 NC, 7 IN3 (in), 8 NC, 9 NC, 10 GND (power), 11 OUT3 (out), 12 NC, 13 NC, 14 OUT2 (out), 15 NC, 16 NC, 17 OUT1 (out), 18 NC, 19 NC, 20 VCC (power)
text: 2,3,5; 6,8,9; 12,13; 18,19; 15,16

## DS1033E-10
designator U?
3-in-1 Low-Voltage Silicon Delay Line; Published: 13-Oct-2000; LatestRevisionDate: 20-Nov-2009; LatestRevisionNote: IPC-7351 Footprint Added.; DatasheetVersion: 6-Apr-1994; PackageReference: TSSOP20; Publisher: Altium Limited; PackageDescription: 20-Pin Thin Small Outline Package 0.65 mm Pitch; ComponentLink1Description: Manufacturer Link; ComponentLink1URL: http://www.maxim-ic.com/; ComponentLink2Description: Datasheet; ComponentLink2URL: http://www.maxim-ic.com/getds.cfm?qv_pk=2609&ln=en
footprint TSSOP20_N (TSOP, 20-Leads, Body 6.5x4.4mm, Pitch 0.65mm, IPC Medium Density)
footprint TSSOP20_L (TSOP, 20-Leads, Body 6.5x4.4mm, Pitch 0.65mm, IPC High Density)
footprint TSSOP20_M (TSOP, 20-Leads, Body 6.5x4.4mm, Pitch 0.65mm, IPC Low Density)
pins: 1 IN1 (in), 2 NC, 3 NC, 4 IN2 (in), 5 NC, 6 NC, 7 IN3 (in), 8 NC, 9 NC, 10 GND (power), 11 OUT3 (out), 12 NC, 13 NC, 14 OUT2 (out), 15 NC, 16 NC, 17 OUT1 (out), 18 NC, 19 NC, 20 VCC (power)
text: 2,3,5; 6,8,9; 12,13; 18,19; 15,16

## DS1033E-12
designator U?
3-in-1 Low-Voltage Silicon Delay Line; Published: 13-Oct-2000; LatestRevisionDate: 20-Nov-2009; LatestRevisionNote: IPC-7351 Footprint Added.; DatasheetVersion: 6-Apr-1994; PackageReference: TSSOP20; Publisher: Altium Limited; PackageDescription: 20-Pin Thin Small Outline Package 0.65 mm Pitch; ComponentLink1Description: Manufacturer Link; ComponentLink1URL: http://www.maxim-ic.com/; ComponentLink2Description: Datasheet; ComponentLink2URL: http://www.maxim-ic.com/getds.cfm?qv_pk=2609&ln=en
footprint TSSOP20_N (TSOP, 20-Leads, Body 6.5x4.4mm, Pitch 0.65mm, IPC Medium Density)
footprint TSSOP20_L (TSOP, 20-Leads, Body 6.5x4.4mm, Pitch 0.65mm, IPC High Density)
footprint TSSOP20_M (TSOP, 20-Leads, Body 6.5x4.4mm, Pitch 0.65mm, IPC Low Density)
pins: 1 IN1 (in), 2 NC, 3 NC, 4 IN2 (in), 5 NC, 6 NC, 7 IN3 (in), 8 NC, 9 NC, 10 GND (power), 11 OUT3 (out), 12 NC, 13 NC, 14 OUT2 (out), 15 NC, 16 NC, 17 OUT1 (out), 18 NC, 19 NC, 20 VCC (power)
text: 2,3,5; 6,8,9; 12,13; 18,19; 15,16

## DS1033E-15
designator U?
3-in-1 Low-Voltage Silicon Delay Line; Published: 13-Oct-2000; LatestRevisionDate: 20-Nov-2009; LatestRevisionNote: IPC-7351 Footprint Added.; DatasheetVersion: 6-Apr-1994; PackageReference: TSSOP20; Publisher: Altium Limited; PackageDescription: 20-Pin Thin Small Outline Package 0.65 mm Pitch; ComponentLink1Description: Manufacturer Link; ComponentLink1URL: http://www.maxim-ic.com/; ComponentLink2Description: Datasheet; ComponentLink2URL: http://www.maxim-ic.com/getds.cfm?qv_pk=2609&ln=en
footprint TSSOP20_N (TSOP, 20-Leads, Body 6.5x4.4mm, Pitch 0.65mm, IPC Medium Density)
footprint TSSOP20_L (TSOP, 20-Leads, Body 6.5x4.4mm, Pitch 0.65mm, IPC High Density)
footprint TSSOP20_M (TSOP, 20-Leads, Body 6.5x4.4mm, Pitch 0.65mm, IPC Low Density)
pins: 1 IN1 (in), 2 NC, 3 NC, 4 IN2 (in), 5 NC, 6 NC, 7 IN3 (in), 8 NC, 9 NC, 10 GND (power), 11 OUT3 (out), 12 NC, 13 NC, 14 OUT2 (out), 15 NC, 16 NC, 17 OUT1 (out), 18 NC, 19 NC, 20 VCC (power)
text: 2,3,5; 6,8,9; 12,13; 18,19; 15,16

## DS1033E-20
designator U?
3-in-1 Low-Voltage Silicon Delay Line; Published: 13-Oct-2000; LatestRevisionDate: 20-Nov-2009; LatestRevisionNote: IPC-7351 Footprint Added.; DatasheetVersion: 6-Apr-1994; PackageReference: TSSOP20; Publisher: Altium Limited; PackageDescription: 20-Pin Thin Small Outline Package 0.65 mm Pitch; ComponentLink1Description: Manufacturer Link; ComponentLink1URL: http://www.maxim-ic.com/; ComponentLink2Description: Datasheet; ComponentLink2URL: http://www.maxim-ic.com/getds.cfm?qv_pk=2609&ln=en
footprint TSSOP20_N (TSOP, 20-Leads, Body 6.5x4.4mm, Pitch 0.65mm, IPC Medium Density)
footprint TSSOP20_L (TSOP, 20-Leads, Body 6.5x4.4mm, Pitch 0.65mm, IPC High Density)
footprint TSSOP20_M (TSOP, 20-Leads, Body 6.5x4.4mm, Pitch 0.65mm, IPC Low Density)
pins: 1 IN1 (in), 2 NC, 3 NC, 4 IN2 (in), 5 NC, 6 NC, 7 IN3 (in), 8 NC, 9 NC, 10 GND (power), 11 OUT3 (out), 12 NC, 13 NC, 14 OUT2 (out), 15 NC, 16 NC, 17 OUT1 (out), 18 NC, 19 NC, 20 VCC (power)
text: 2,3,5; 6,8,9; 12,13; 18,19; 15,16

## DS1033E-25
designator U?
3-in-1 Low-Voltage Silicon Delay Line; Published: 13-Oct-2000; LatestRevisionDate: 20-Nov-2009; LatestRevisionNote: IPC-7351 Footprint Added.; DatasheetVersion: 6-Apr-1994; PackageReference: TSSOP20; Publisher: Altium Limited; PackageDescription: 20-Pin Thin Small Outline Package 0.65 mm Pitch; ComponentLink1Description: Manufacturer Link; ComponentLink1URL: http://www.maxim-ic.com/; ComponentLink2Description: Datasheet; ComponentLink2URL: http://www.maxim-ic.com/getds.cfm?qv_pk=2609&ln=en
footprint TSSOP20_N (TSOP, 20-Leads, Body 6.5x4.4mm, Pitch 0.65mm, IPC Medium Density)
footprint TSSOP20_L (TSOP, 20-Leads, Body 6.5x4.4mm, Pitch 0.65mm, IPC High Density)
footprint TSSOP20_M (TSOP, 20-Leads, Body 6.5x4.4mm, Pitch 0.65mm, IPC Low Density)
pins: 1 IN1 (in), 2 NC, 3 NC, 4 IN2 (in), 5 NC, 6 NC, 7 IN3 (in), 8 NC, 9 NC, 10 GND (power), 11 OUT3 (out), 12 NC, 13 NC, 14 OUT2 (out), 15 NC, 16 NC, 17 OUT1 (out), 18 NC, 19 NC, 20 VCC (power)
text: 2,3,5; 6,8,9; 12,13; 18,19; 15,16

## DS1033E-30
designator U?
3-in-1 Low-Voltage Silicon Delay Line; Published: 13-Oct-2000; LatestRevisionDate: 20-Nov-2009; LatestRevisionNote: IPC-7351 Footprint Added.; DatasheetVersion: 6-Apr-1994; PackageReference: TSSOP20; Publisher: Altium Limited; PackageDescription: 20-Pin Thin Small Outline Package 0.65 mm Pitch; ComponentLink1Description: Manufacturer Link; ComponentLink1URL: http://www.maxim-ic.com/; ComponentLink2Description: Datasheet; ComponentLink2URL: http://www.maxim-ic.com/getds.cfm?qv_pk=2609&ln=en
footprint TSSOP20_N (TSOP, 20-Leads, Body 6.5x4.4mm, Pitch 0.65mm, IPC Medium Density)
footprint TSSOP20_L (TSOP, 20-Leads, Body 6.5x4.4mm, Pitch 0.65mm, IPC High Density)
footprint TSSOP20_M (TSOP, 20-Leads, Body 6.5x4.4mm, Pitch 0.65mm, IPC Low Density)
pins: 1 IN1 (in), 2 NC, 3 NC, 4 IN2 (in), 5 NC, 6 NC, 7 IN3 (in), 8 NC, 9 NC, 10 GND (power), 11 OUT3 (out), 12 NC, 13 NC, 14 OUT2 (out), 15 NC, 16 NC, 17 OUT1 (out), 18 NC, 19 NC, 20 VCC (power)
text: 2,3,5; 6,8,9; 12,13; 18,19; 15,16

## DS1033M-8
designator U?
3-in-1 Low-Voltage Silicon Delay Line; Published: 13-Oct-2000; LatestRevisionDate: 17-Jul-2002; LatestRevisionNote: Re-released for DXP Platform.; DatasheetVersion: 17-Feb-1998; PackageVersion: 1999; PackageReference: DIP8; Publisher: Altium Limited; PackageDescription: DIP, 8-Pin, Row Spacing 7.62 mm, Pitch 2.54 mm; ComponentLink1Description: Manufacturer Link; ComponentLink1URL: http://www.maxim-ic.com/; ComponentLink2Description: Datasheet; ComponentLink2URL: http://www.maxim-ic.com/getds.cfm?qv_pk=2609&ln=en
footprint DIP8 (DIP, 8-Leads, Row Spacing 7.62mm, Pitch 2.54mm, Body 9.65x6.35mm)
pins: 1 IN1 (in), 2 IN2 (in), 3 IN3 (in), 4 GND (power), 5 OUT3 (out), 6 OUT2 (out), 7 OUT1 (out), 8 VCC (power)

## DS1033M-10
designator U?
3-in-1 Low-Voltage Silicon Delay Line; Published: 13-Oct-2000; LatestRevisionDate: 17-Jul-2002; LatestRevisionNote: Re-released for DXP Platform.; DatasheetVersion: 17-Feb-1998; PackageVersion: 1999; PackageReference: DIP8; Publisher: Altium Limited; PackageDescription: DIP, 8-Pin, Row Spacing 7.62 mm, Pitch 2.54 mm; ComponentLink1Description: Manufacturer Link; ComponentLink1URL: http://www.maxim-ic.com/; ComponentLink2Description: Datasheet; ComponentLink2URL: http://www.maxim-ic.com/getds.cfm?qv_pk=2609&ln=en
footprint DIP8 (DIP, 8-Leads, Row Spacing 7.62mm, Pitch 2.54mm, Body 9.65x6.35mm)
pins: 1 IN1 (in), 2 IN2 (in), 3 IN3 (in), 4 GND (power), 5 OUT3 (out), 6 OUT2 (out), 7 OUT1 (out), 8 VCC (power)

## DS1033M-12
designator U?
3-in-1 Low-Voltage Silicon Delay Line; Published: 13-Oct-2000; LatestRevisionDate: 17-Jul-2002; LatestRevisionNote: Re-released for DXP Platform.; DatasheetVersion: 17-Feb-1998; PackageVersion: 1999; PackageReference: DIP8; Publisher: Altium Limited; PackageDescription: DIP, 8-Pin, Row Spacing 7.62 mm, Pitch 2.54 mm; ComponentLink1Description: Manufacturer Link; ComponentLink1URL: http://www.maxim-ic.com/; ComponentLink2Description: Datasheet; ComponentLink2URL: http://www.maxim-ic.com/getds.cfm?qv_pk=2609&ln=en
footprint DIP8 (DIP, 8-Leads, Row Spacing 7.62mm, Pitch 2.54mm, Body 9.65x6.35mm)
pins: 1 IN1 (in), 2 IN2 (in), 3 IN3 (in), 4 GND (power), 5 OUT3 (out), 6 OUT2 (out), 7 OUT1 (out), 8 VCC (power)

## DS1033M-15
designator U?
3-in-1 Low-Voltage Silicon Delay Line; Published: 13-Oct-2000; LatestRevisionDate: 17-Jul-2002; LatestRevisionNote: Re-released for DXP Platform.; DatasheetVersion: 17-Feb-1998; PackageVersion: 1999; PackageReference: DIP8; Publisher: Altium Limited; PackageDescription: DIP, 8-Pin, Row Spacing 7.62 mm, Pitch 2.54 mm; ComponentLink1Description: Manufacturer Link; ComponentLink1URL: http://www.maxim-ic.com/; ComponentLink2Description: Datasheet; ComponentLink2URL: http://www.maxim-ic.com/getds.cfm?qv_pk=2609&ln=en
footprint DIP8 (DIP, 8-Leads, Row Spacing 7.62mm, Pitch 2.54mm, Body 9.65x6.35mm)
pins: 1 IN1 (in), 2 IN2 (in), 3 IN3 (in), 4 GND (power), 5 OUT3 (out), 6 OUT2 (out), 7 OUT1 (out), 8 VCC (power)

## DS1033M-20
designator U?
3-in-1 Low-Voltage Silicon Delay Line; Published: 13-Oct-2000; LatestRevisionDate: 17-Jul-2002; LatestRevisionNote: Re-released for DXP Platform.; DatasheetVersion: 17-Feb-1998; PackageVersion: 1999; PackageReference: DIP8; Publisher: Altium Limited; PackageDescription: DIP, 8-Pin, Row Spacing 7.62 mm, Pitch 2.54 mm; ComponentLink1Description: Manufacturer Link; ComponentLink1URL: http://www.maxim-ic.com/; ComponentLink2Description: Datasheet; ComponentLink2URL: http://www.maxim-ic.com/getds.cfm?qv_pk=2609&ln=en
footprint DIP8 (DIP, 8-Leads, Row Spacing 7.62mm, Pitch 2.54mm, Body 9.65x6.35mm)
pins: 1 IN1 (in), 2 IN2 (in), 3 IN3 (in), 4 GND (power), 5 OUT3 (out), 6 OUT2 (out), 7 OUT1 (out), 8 VCC (power)

## DS1033M-25
designator U?
3-in-1 Low-Voltage Silicon Delay Line; Published: 13-Oct-2000; LatestRevisionDate: 17-Jul-2002; LatestRevisionNote: Re-released for DXP Platform.; DatasheetVersion: 17-Feb-1998; PackageVersion: 1999; PackageReference: DIP8; Publisher: Altium Limited; PackageDescription: DIP, 8-Pin, Row Spacing 7.62 mm, Pitch 2.54 mm; ComponentLink1Description: Manufacturer Link; ComponentLink1URL: http://www.maxim-ic.com/; ComponentLink2Description: Datasheet; ComponentLink2URL: http://www.maxim-ic.com/getds.cfm?qv_pk=2609&ln=en
footprint DIP8 (DIP, 8-Leads, Row Spacing 7.62mm, Pitch 2.54mm, Body 9.65x6.35mm)
pins: 1 IN1 (in), 2 IN2 (in), 3 IN3 (in), 4 GND (power), 5 OUT3 (out), 6 OUT2 (out), 7 OUT1 (out), 8 VCC (power)

## DS1033M-30
designator U?
3-in-1 Low-Voltage Silicon Delay Line; Published: 13-Oct-2000; LatestRevisionDate: 17-Jul-2002; LatestRevisionNote: Re-released for DXP Platform.; DatasheetVersion: 17-Feb-1998; PackageVersion: 1999; PackageReference: DIP8; Publisher: Altium Limited; PackageDescription: DIP, 8-Pin, Row Spacing 7.62 mm, Pitch 2.54 mm; ComponentLink1Description: Manufacturer Link; ComponentLink1URL: http://www.maxim-ic.com/; ComponentLink2Description: Datasheet; ComponentLink2URL: http://www.maxim-ic.com/getds.cfm?qv_pk=2609&ln=en
footprint DIP8 (DIP, 8-Leads, Row Spacing 7.62mm, Pitch 2.54mm, Body 9.65x6.35mm)
pins: 1 IN1 (in), 2 IN2 (in), 3 IN3 (in), 4 GND (power), 5 OUT3 (out), 6 OUT2 (out), 7 OUT1 (out), 8 VCC (power)

## DS1033Z-8
designator U?
3-in-1 Low-Voltage Silicon Delay Line; Published: 13-Oct-2000; LatestRevisionDate: 13-Apr-2006; LatestRevisionNote: IPC-7351 Footprint Added.; DatasheetVersion: 17-Feb-1998; PackageVersion: 1999; PackageReference: SOIC8N; Publisher: Altium Limited; PackageDescription: 8-Pin Small Outline Integrated Circuit 1.27 mm Pitch; Code_IPC: SOIC127P600-8; ComponentLink1Description: Manufacturer Link; ComponentLink1URL: http://www.maxim-ic.com/; ComponentLink2Description: Datasheet; ComponentLink2URL: http://www.maxim-ic.com/getds.cfm?qv_pk=2609&ln=en
footprint SOIC8N_N (SOIC, 8-Leads, Body 4.9x3.9mm, Pitch 1.27mm, IPC Medium Density)
footprint SOIC8N_L (SOIC, 8-Leads, Body 4.9x3.9mm, Pitch 1.27mm, IPC High Density)
footprint SOIC8N_M (SOIC, 8-Leads, Body 4.9x3.9mm, Pitch 1.27mm, IPC Low Density)
pins: 1 IN1 (in), 2 IN2 (in), 3 IN3 (in), 4 GND (power), 5 OUT3 (out), 6 OUT2 (out), 7 OUT1 (out), 8 VCC (power)

## DS1033Z-10
designator U?
3-in-1 Low-Voltage Silicon Delay Line; Published: 13-Oct-2000; LatestRevisionDate: 13-Apr-2006; LatestRevisionNote: IPC-7351 Footprint Added.; DatasheetVersion: 17-Feb-1998; PackageVersion: 1999; PackageReference: SOIC8N; Publisher: Altium Limited; PackageDescription: 8-Pin Small Outline Integrated Circuit 1.27 mm Pitch; Code_IPC: SOIC127P600-8; ComponentLink1Description: Manufacturer Link; ComponentLink1URL: http://www.maxim-ic.com/; ComponentLink2Description: Datasheet; ComponentLink2URL: http://www.maxim-ic.com/getds.cfm?qv_pk=2609&ln=en
footprint SOIC8N_N (SOIC, 8-Leads, Body 4.9x3.9mm, Pitch 1.27mm, IPC Medium Density)
footprint SOIC8N_L (SOIC, 8-Leads, Body 4.9x3.9mm, Pitch 1.27mm, IPC High Density)
footprint SOIC8N_M (SOIC, 8-Leads, Body 4.9x3.9mm, Pitch 1.27mm, IPC Low Density)
pins: 1 IN1 (in), 2 IN2 (in), 3 IN3 (in), 4 GND (power), 5 OUT3 (out), 6 OUT2 (out), 7 OUT1 (out), 8 VCC (power)

## DS1033Z-12
designator U?
3-in-1 Low-Voltage Silicon Delay Line; Published: 13-Oct-2000; LatestRevisionDate: 13-Apr-2006; LatestRevisionNote: IPC-7351 Footprint Added.; DatasheetVersion: 17-Feb-1998; PackageVersion: 1999; PackageReference: SOIC8N; Publisher: Altium Limited; PackageDescription: 8-Pin Small Outline Integrated Circuit 1.27 mm Pitch; Code_IPC: SOIC127P600-8; ComponentLink1Description: Manufacturer Link; ComponentLink1URL: http://www.maxim-ic.com/; ComponentLink2Description: Datasheet; ComponentLink2URL: http://www.maxim-ic.com/getds.cfm?qv_pk=2609&ln=en
footprint SOIC8N_N (SOIC, 8-Leads, Body 4.9x3.9mm, Pitch 1.27mm, IPC Medium Density)
footprint SOIC8N_L (SOIC, 8-Leads, Body 4.9x3.9mm, Pitch 1.27mm, IPC High Density)
footprint SOIC8N_M (SOIC, 8-Leads, Body 4.9x3.9mm, Pitch 1.27mm, IPC Low Density)
pins: 1 IN1 (in), 2 IN2 (in), 3 IN3 (in), 4 GND (power), 5 OUT3 (out), 6 OUT2 (out), 7 OUT1 (out), 8 VCC (power)